# EAGLE library part FEMALE-2X4-SMT (library my-custom)
2x4 female SMT header http://www.digikey.com/product-detail/en/NPPC042KFMS-RC/S5713-ND/776172
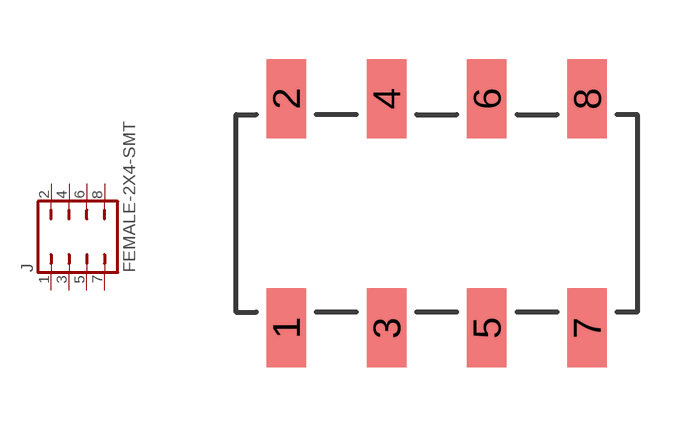
[diagram p0: symbol with the pads of FEMALE-2X4-SMT; footprint FEMALE-2X4-SMT]

Designator prefix J

## FEMALE-2X4-SMT  [FEMALE-2X4-SMT]
1  1  pas
2  2  pas
3  3  pas
4  4  pas
5  5  pas
6  6  pas
7  7  pas
8  8  pas

## Footprint FEMALE-2X4-SMT (pad centres in mm)
2x4 female SMT header http://www.digikey.com/product-detail/en/NPPC042KFMS-RC/S5713-ND/776172
smd 1 x 2: 1 -3.81,-2.9; 2 -3.81,2.9; 3 -1.27,-2.9; 4 -1.27,2.9; 5 1.27,-2.9; 6 1.27,2.9; 7 3.81,-2.9; 8 3.81,2.9